# Altium schematic symbol library Tests.SchLib: 2 symbols
Pins are listed as number, name and electrical type; pins without a type are passive.

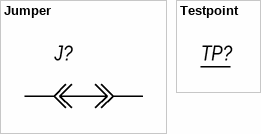
[diagram p0: symbols Jumper to Testpoint]

## Jumper
designator J?, comment PLS-2  (value not drawn)
pins: 1, 2

## Testpoint
designator TP?, comment TestPoint  (value not drawn)
pins: 1